# Altium schematic symbol library NOUMANPCBLIB.SchLib: 638 symbols (part 2 of 6)
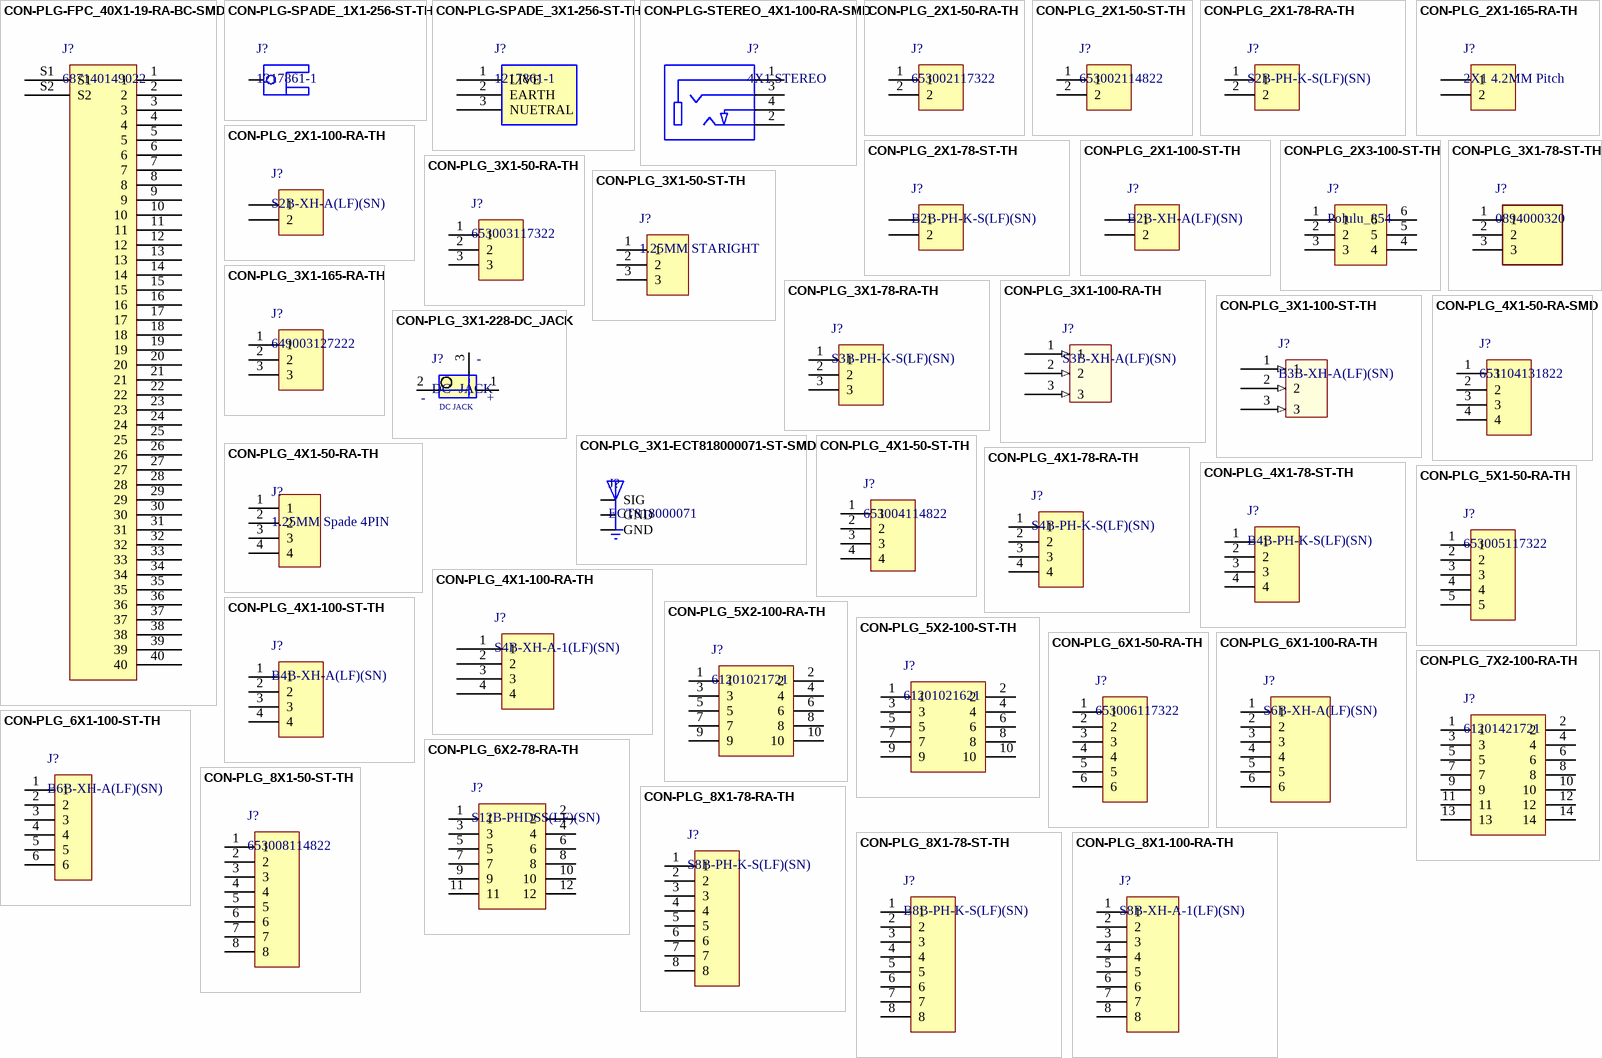
[diagram p19: symbols CON-PLG-FPC_40X1-19-RA-BC-SMD to CON-PLG_8X1-100-RA-TH]

## CON-PLG_6X1-100-ST-TH
designator J?, comment B6B-XH-A(LF)(SN)
6 Pins, 1 Row 2.54mm Pitch, straight Connector, male; Manufacturer: JST; Mating Part Number: XHP-6; Crimp Part Number: ASXHSXH22K51; Alternate Part Number-1: NA; Manufacturer Part Number: B6B-XH-A(LF)(SN); Case/Package: TH-CON; Supplier-1: ARROW; Supplier Part Number-1: B6B-XH-A(LF)(SN)
footprint CON6_100_B6B-XH-A_TH_ST (Connector Header)
pins: 1, 2, 3, 4, 5, 6

## CON-PLG_6X2-78-RA-TH
designator J?, comment S12B-PHDSS(LF)(SN)
12 Pins, 2 Row 2mm Pitch, right angle Connector, male; Manufacturer: JST; Mating Part Number: PHDR-12VS; Crimp Part Number: SPHD-001T-P0.5; Alternate Part Number-1: NA; Manufacturer Part Number: S12B-PHDSS(LF)(SN); Case/Package: TH-CON; Supplier-1: ARROW; Supplier Part Number-1: S12B-PHDSS(LF)(SN)
footprint CON12_78_S12B-PHDSS_TH_RA (CONNECTOR)
pins: 1, 2, 3, 4, 5, 6, 7, 8, 9, 10, 11, 12

## CON-PLG_7X2-100-RA-TH
designator J?, comment 61201421721
14 Pins, 2 Row 1.25mm Pitch, right angle Connector, male; Manufacturer: WE; Mating Part Number: 61201423021; Crimp Part Number: 63911415521CAB; Alternate Part Number-1: NA; Manufacturer Part Number: 61201421721; Case/Package: TH-CON; Supplier-1: WURTH; Supplier Part Number-1: 61201421721
footprint CON14_100_61201421721_TH_RA (Connector Header Through Hole, Right Angle 14 position 0.100" (2.54mm))
pins: 1, 2, 3, 4, 5, 6, 7, 8, 9, 10, 11, 12, 13, 14

## CON-PLG_8X1-50-ST-TH
designator J?, comment 653008114822
8 Pins, 1 Row 1.25mm Pitch, straight Connector, male; Manufacturer: Wurth Electronics; Mating Part Number: 653008113322; Crimp Part Number: 653153128130; Alternate Part Number-1: NA; Manufacturer Part Number: 653008114822; Case/Package: TH-CON; Supplier-1: WURTH; Supplier Part Number-1: 653008114822
footprint CON8_50_653008114822_TH_ST (wurth connector)
pins: 1, 2, 3, 4, 5, 6, 7, 8

## CON-PLG_8X1-78-RA-TH
designator J?, comment S8B-PH-K-S(LF)(SN)
8 Pins, 1 Row 2mm Pitch, right angle Connector, male; Manufacturer: JST; Mating Part Number: PHR-8; Crimp Part Number: ASPHSPH24K51; Alternate Part Number-1: NA; Manufacturer Part Number: S8B-PH-K-S(LF)(SN); Case/Package: TH-CON; Supplier-1: ARROW; Supplier Part Number-1: S8B-PH-K-S(LF)(SN)
footprint CON8_78_S8B-PH-K-S_TH_RA (Connector Header)
pins: 1, 2, 3, 4, 5, 6, 7, 8

## CON-PLG_8X1-78-ST-TH
designator J?, comment B8B-PH-K-S(LF)(SN)
8 Pins, 1 Row 2mm Pitch, straight Connector, male; Manufacturer: JST; Mating Part Number: PHR-8; Alternate Part Number-1: NA; Manufacturer Part Number: B8B-PH-K-S(LF)(SN); Case/Package: TH-CON; Supplier-1: LCSC; Supplier Part Number-1: C157975; Crimp Part Number: *
footprint CON8_78_B8B-PH-K-S_TH_ST (Connector Header)
pins: 1, 2, 3, 4, 5, 6, 7, 8

## CON-PLG_8X1-100-RA-TH
designator J?, comment S8B-XH-A-1(LF)(SN)
8 Pins, 1 Row 2.54mm Pitch, right angle Connector, male; Manufacturer: WE; Mating Part Number: XHP-8; Crimp Part Number: ASXHSXH22K51; Alternate Part Number-1: NA; Manufacturer Part Number: S8B-XH-A-1(LF)(SN); Case/Package: TH-CON; Supplier-1: LCSC; Supplier Part Number-1: C157914
footprint CON8_100_S8B-XH-A_TH_RA (Connector Header)
pins: 1, 2, 3, 4, 5, 6, 7, 8

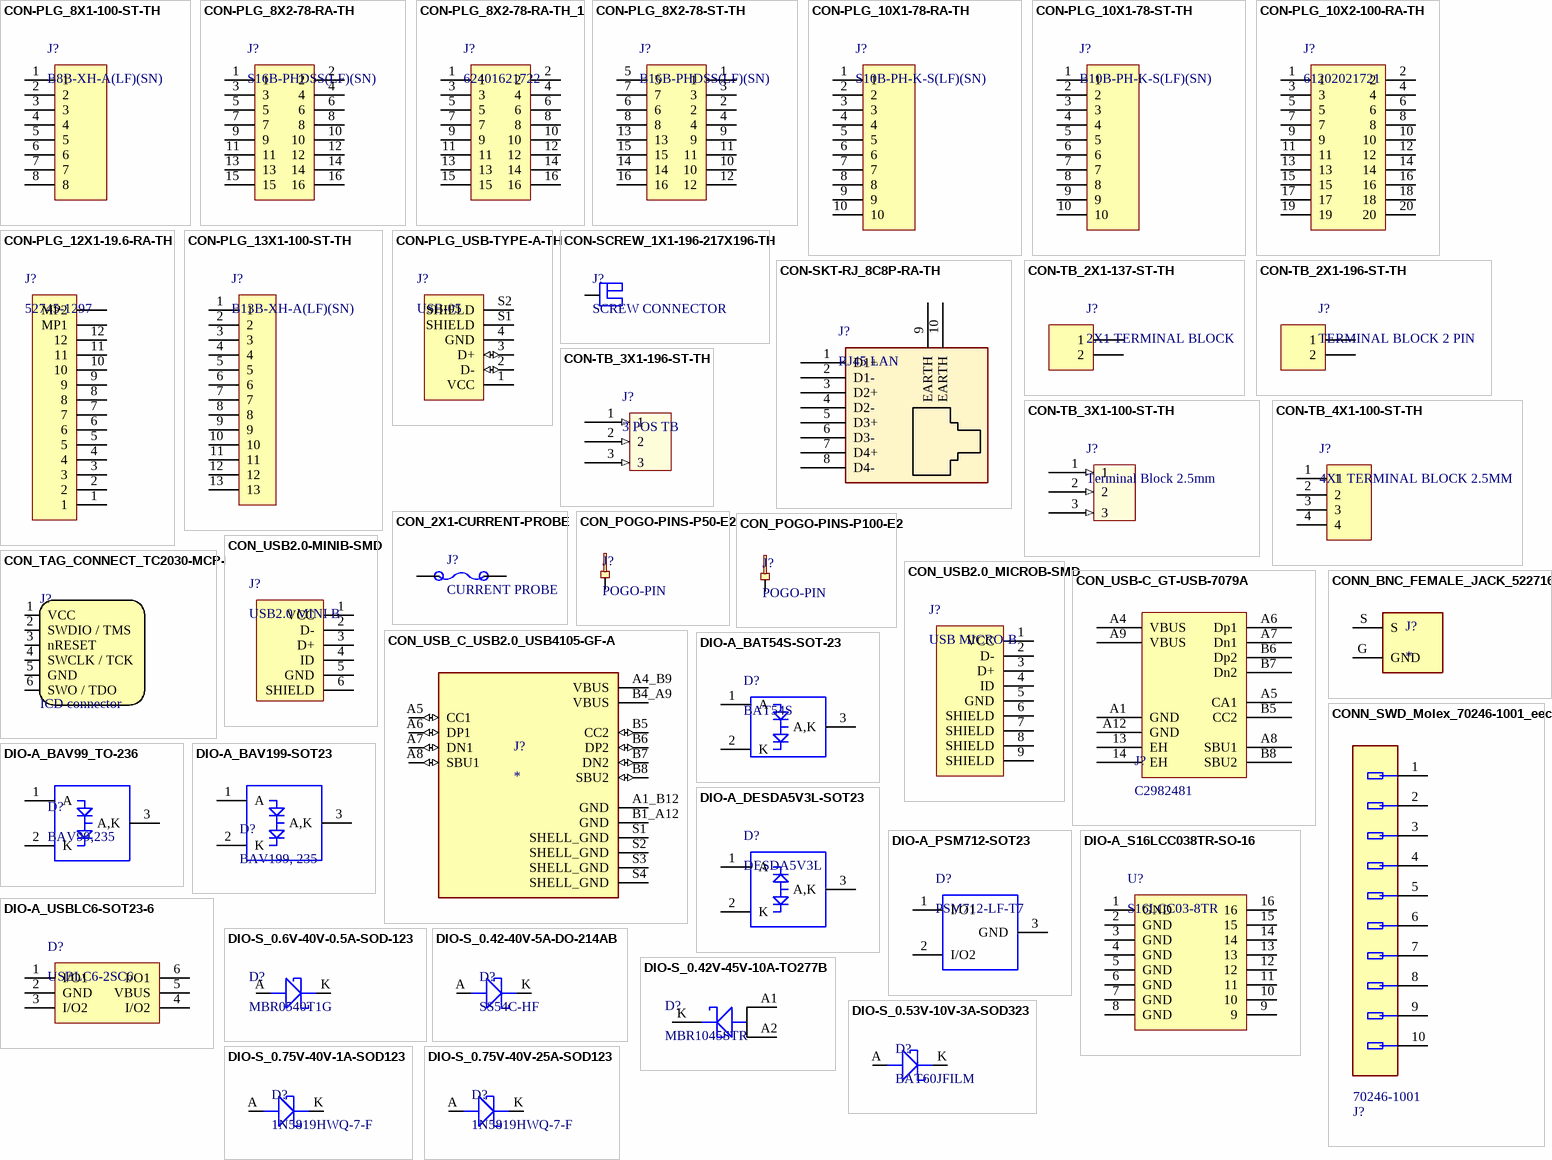
[diagram p4: symbols CON-PLG_8X1-100-ST-TH to DIO-S_0.75V-40V-25A-SOD123]

## CON-PLG_8X1-100-ST-TH
designator J?, comment B8B-XH-A(LF)(SN)
8 Pins, 1 Row 2.54mm Pitch, straight Connector, male; Manufacturer: JST; Mating Part Number: XHP-8; Crimp Part Number: ASXHSXH22K51; Alternate Part Number-1: NA; Manufacturer Part Number: B8B-XH-A(LF)(SN); Case/Package: TH-CON; Supplier-1: LCSC; Supplier Part Number-1: C157972
footprint CON8_100_B8B-XH-A_TH_ST (Connector Header)
pins: 1, 2, 3, 4, 5, 6, 7, 8

## CON-PLG_8X2-78-RA-TH
designator J?, comment S16B-PHDSS(LF)(SN)
16 Pins, 2 Row 2mm Pitch, right angle Connector, male; Manufacturer: JST; Mating Part Number: PHDR-16VS; Crimp Part Number: SPHD-001T-P0.5; Alternate Part Number-1: NA; Manufacturer Part Number: S16B-PHDSS(LF)(SN); Case/Package: TH-CON; Supplier-1: LCSC; Supplier Part Number-1: C161675
footprint CON16_78_S16B-PHDSS_TH-RA (CONNECTOR)
pins: 1, 2, 3, 4, 5, 6, 7, 8, 9, 10, 11, 12, 13, 14, 15, 16

## CON-PLG_8X2-78-RA-TH_1
designator J?, comment 62401621722
Connector Header Through Hole, Right Angle 16 position 0.079" (2.00mm); Manufacturer: Würth Elektronik; Mating Part Number: 624016213322; Crimp Part Number: 62410113722; Alternate Part Number-1: NA; Manufacturer Part Number: 62401621722; Case/Package: TH; Supplier-1: Wurth; Supplier Part Number-1: 62401621722
footprint CON16_78_62401621722_TH_RA (Wurth Connector)
pins: 1, 2, 3, 4, 5, 6, 7, 8, 9, 10, 11, 12, 13, 14, 15, 16

## CON-PLG_8X2-78-ST-TH
designator J?, comment B16B-PHDSS(LF)(SN)
16 Pins, 2 Row 2mm Pitch, straight Connector, male; Manufacturer: JST; Mating Part Number: PHDR-16VS; Crimp Part Number: SPHD-001T-P0.5; Alternate Part Number-1: NA; Manufacturer Part Number: B16B-PHDSS(LF)(SN); Case/Package: TH-CON; Supplier-1: LCSC; Supplier Part Number-1: C160325
footprint CON16_78_59D59_TH_ST (Connector)
pins: 1, 2, 3, 4, 5, 6, 7, 8, 9, 10, 11, 12, 13, 14, 15, 16

## CON-PLG_10X1-78-RA-TH
designator J?, comment S10B-PH-K-S(LF)(SN)
10 Pins, 1 Row 2mm Pitch, right angle Connector, male; Manufacturer: JST; Mating Part Number: PHR-10; Crimp Part Number: ASPHSPH24K51; Alternate Part Number-1: NA; Manufacturer Part Number: S10B-PH-K-S(LF)(SN); Case/Package: TH-CON; Supplier-1: ARROW; Supplier Part Number-1: S10B-PH-K-S(LF)(SN)
footprint CON10_78_S10B-PH-K-S_TH_RA (Connector Header Through Hole, Right Angle 10 position 0.079" (2.00mm))
pins: 1, 2, 3, 4, 5, 6, 7, 8, 9, 10

## CON-PLG_10X1-78-ST-TH
designator J?, comment B10B-PH-K-S(LF)(SN)
10 Pins, 1 Row 2mm Pitch, straight Connector, male; Manufacturer: jst; Mating Part Number: PHR-10; Crimp Part Number: ASPHSPH24K51; Alternate Part Number-1: NA; Manufacturer Part Number: B10B-PH-K-S(LF)(SN); Case/Package: TH-CON; Supplier-1: Arrow; Supplier Part Number-1: B10B-PH-K-S(LF)(SN)
footprint CON10_78_B10B-PH-K-S(LF)(SN)_TH_ST (JST CONNECTOR)
pins: 1, 2, 3, 4, 5, 6, 7, 8, 9, 10

## CON-PLG_10X2-100-RA-TH
designator J?, comment 61202021721
Connector Header Through Hole, Right Angle 20 position 0.100" (2.54mm); Manufacturer: WE; Mating Part Number: 61202023021; Crimp Part Number: 3365/20 300; Alternate Part Number-1: NA; Manufacturer Part Number: 61202021721; Case/Package: TH; Supplier-1: Mouser; Supplier Part Number-1: 710-61202021721
footprint CON20_100_61202021721_TH_RA (Connector Header Through Hole, Right Angle 20 position 0.100" (2.54mm))
pins: 1, 2, 3, 4, 5, 6, 7, 8, 9, 10, 11, 12, 13, 14, 15, 16, 17, 18, 19, 20

## CON-PLG_12X1-19.6-RA-TH
designator J?, comment 52745-1297
12 Pins, 1 Row 19.6mil Pitch, right angle Connector, male; Manufacturer: Molex; Mating Part Number: 687612050002; Alternate Part Number-1: NA; Manufacturer Part Number: 52745-1297; Case/Package: TH-CON; Supplier-1: MOUSER; Supplier Part Number-1: 538-52745-1297
footprint CON12_19.7_0527451297_RA_SMD (CONNECTOR)
pins: 1, 2, 3, 4, 5, 6, 7, 8, 9, 10, 11, 12, MP1, MP2

## CON-PLG_13X1-100-ST-TH
designator J?, comment B13B-XH-A(LF)(SN)
Connector Header Through Hole 13 position 0.098" (2.50mm); Manufacturer: JST Sales America Inc.; Mating Part Number: XHP-13; Crimp Part Number: ASXHSXH22K51; Alternate Part Number-1: NA; Manufacturer Part Number: B13B-XH-A(LF)(SN); Case/Package: TH; Supplier-1: Arrow; Supplier Part Number-1: B13B-XH-A(LF)(SN)
footprint CON13_100_B13B-XH-A(LF)(SN) (JST CON)
pins: 1, 2, 3, 4, 5, 6, 7, 8, 9, 10, 11, 12, 13

## CON-PLG_USB-TYPE-A-TH
designator J?, comment USB-05
USB Connectors USB CONN PLUG RA SMT POST 1.1 REEL; Manufacturer: TE Connectivity; Alternate Part Number-1: NA; Manufacturer Part Number: USB-05; Case/Package: TH; Supplier-1: LCSC; Supplier Part Number-1: C112454
footprint USB2.0_TYPE-A_TH (USB 2.0 TYPE A)
pins: 1 VCC (power), 2 D- (io), 3 D+ (io), 4 GND (power), S1 SHIELD (power), S2 SHIELD (power)

## CON-SCREW_1X1-196-217X196-TH
designator J?, comment SCREW CONNECTOR
1 Pins, 1 Row 4.2mm Pitch, straight Connector, male; Manufacturer Part Number: NA; Manufacturer: STMicroelectronics; Case/Package: TH-CON; Supplier-1: SP ROAD; Supplier Part Number-1: NA; Alternate Part Number-1: NA
footprint CON1_P165_98D47_TH_ST (Screw Terminal)
pins: 1

## CON-SKT-RJ_8C8P-RA-TH
designator J?, comment RJ45 LAN
8 Pins, 2 Row 2.54mm Pitch, right angle Connector, male; Manufacturer: Assmann; Manufacturer Part Number: A-2004-2-4-LPS-N-R; Alternate Part Number-1: NA; Case/Package: TH-CON; Supplier-1: SP ROAD; Supplier Part Number-1: A-2004-2-4-LPS-N-R
footprint CON10_P106_RJ45_TH_ST (LAN Connector)
pins: 1 D1+, 2 D1-, 3 D2+, 4 D2-, 5 D3+, 6 D3-, 7 D4+, 8 D4-, 9 EARTH, 10 EARTH

## CON-TB_2X1-137-ST-TH
designator J?, comment 2X1 TERMINAL BLOCK
2 Pins, 1 Row 137mil Pitch, straight Connector, male; Manufacturer: Wurth Electronics; Manufacturer Part Number: 691103110002; Alternate Part Number-1: NA; Case/Package: TH-CON; Supplier-1: SP ROAD; Supplier Part Number-1: 691103110002
footprint CON2_P137_691103110002_TH_ST (Connector terminal)
pins: 1, 2

## CON-TB_2X1-196-ST-TH
designator J?, comment TERMINAL BLOCK 2 PIN
2 Pins, 1 Row 5mm Pitch, straight Connector, male; Manufacturer: Phoenix Contact; Manufacturer Part Number: MKDSN1,5/2; Alternate Part Number-1: NA; Case/Package: TH-CON; Supplier-1: SP ROAD; Supplier Part Number-1: MKDSN1,5/2
footprint CON2_P196_1729128_TH_ST (Terminal Block)
pins: 1, 2

## CON-TB_3X1-100-ST-TH
designator J?, comment Terminal Block 2.5mm
3 Pins, 1 Row 2.54mm Pitch, straight Connector, male; Manufacturer Part Number: 1725669; Manufacturer: Phoenix Contact; Alternate Part Number-1: NA; Case/Package: TH-CON; Supplier-1: SP ROAD; Supplier Part Number-1: 1725669
footprint CON3_100_TB_TH_ST
pins: 1 (in), 2 (in), 3 (in)

## CON-TB_3X1-196-ST-TH
designator J?, comment 3 POS TB
3 Pins, 1 Row 5mm Pitch, straight Connector, male; Manufacturer: Wurth Electronics; Manufacturer Part Number: 691101710003; Alternate Part Number-1: NA; Case/Package: TH-CON; Supplier-1: SP ROAD; Supplier Part Number-1: 691101710003
footprint CON3_P196_691101710003_TH_ST (Terminal Block)
pins: 1 (in), 2 (in), 3 (in)

## CON-TB_4X1-100-ST-TH
designator J?, comment 4X1 TERMINAL BLOCK 2.5MM
4 Pins, 1 Row 2.54mm Pitch, straight Connector, male; Manufacturer: Phoenix Contact; Manufacturer Part Number: 1989764; Alternate Part Number-1: NA; Case/Package: TH-CON; Supplier-1: ARROW; Supplier Part Number-1: 1989764
footprint CON4_100_TB_TH_ST
pins: 1, 2, 3, 4

## CON_2X1-CURRENT-PROBE
designator J?, comment CURRENT PROBE
2 Pins, probing holes for wires; Manufacturer Part Number: NA; Case/Package: CURRENT PROBE-TH; Manufacturer: NA; Supplier-1: N/A; Supplier Part Number-1: N/A; Alternate Part Number-1: NA
footprint CON2_P905_62D100_TH (NA)
pins: 1, 2

## CON_POGO-PINS-P50-E2
designator J?, comment POGO-PIN
Spring test probes are necessary parts for PCB testing to access components on printed circuit assemblies.; Manufacturer: NA; Manufacturer Part Number: P50-E2; Case/Package: TH; Supplier-1: Robokits; Supplier Part Number-1: P50-E2; Alternate Part Number-1: NA
footprint P100-E2_TH_ST (POGO-PINS)
pins: 1

## CON_POGO-PINS-P100-E2
designator J?, comment POGO-PIN
Spring test probes are necessary parts for PCB testing to access components on printed circuit assemblies.; Manufacturer: NA; Manufacturer Part Number: P100-E2; Case/Package: TH; Supplier-1: Robokits; Supplier Part Number-1: P100-E2; Alternate Part Number-1: NA
footprint P100-E2_TH_ST (POGO-PINS)
pins: 1

## CON_TAG_CONNECT_TC2030-MCP-NL
designator J?, comment ICD connector  (no BOM)
Conector par ICD
footprint TC2030-MCP (Conector ICD en placa)
pins: 1 VCC, 2 SWDIO / TMS, 3 nRESET, 4 SWCLK / TCK, 5 GND, 6 SWO / TDO

## CON_USB2.0-MINIB-SMD
designator J?, comment USB2.0 MINI B
USB - mini B USB 2.0 Receptacle Connector 5 Position Surface Mount, Right Angle; Manufacturer: EDAC; Manufacturer Part Number: 690-005-299-043; Alternate Part Number-1: NA; Case/Package: USB-MINI-B; Supplier-1: LCSC; Supplier Part Number-1: C105424
footprint CON_690-005-299-043 (USB MINI-B)
pins: 1 VCC, 2 D-, 3 D+, 4 ID, 5 GND, 6 SHIELD

## CON_USB2.0_MICROB-SMD
designator J?, comment USB MICRO-B
USB - micro B USB 2.0 Receptacle Connector 5 Position Surface Mount, Right Angle; Manufacturer: ICC; Manufacturer Part Number: 10118192-0001LF; Alternate Part Number-1: NA; Case/Package: USB MICRO-B SMD; Supplier-1: SUNROM; Supplier Part Number-1: MICRO USB
footprint CON_10118192-0001LF_SMD (USB2.0 MICRO)
pins: 1 VCC, 2 D-, 3 D+, 4 ID, 5 GND, 6 SHIELD, 7 SHIELD, 8 SHIELD, 9 SHIELD

## CON_USB-C_GT-USB-7079A
designator J?, comment C2982481
5A 1 Surface Mount 16 Female -55℃~+85℃ Type-C SMD USB Connectors ROHS C2982481
footprint GT-USB-7079A
pins: 13 EH, 14 EH, A1 GND, A4 VBUS, A5 CA1, A6 Dp1, A7 Dn1, A8 SBU1, A9 VBUS, A12 GND, B5 CC2, B6 Dp2, B7 Dn2, B8 SBU2

## CON_USB_C_USB2.0_USB4105-GF-A
designator J?
footprint CON_USB_C_USB2.0_USB4105-GF-A
pins: A1_B12 GND (power), A4_B9 VBUS (power), A5 CC1 (io), A6 DP1 (io), A7 DN1 (io), A8 SBU1 (io), B1_A12 GND (power), B4_A9 VBUS (power), B5 CC2 (io), B6 DP2 (io), B7 DN2 (io), B8 SBU2 (io), S1 SHELL_GND (power), S2 SHELL_GND (power), S3 SHELL_GND (power), S4 SHELL_GND (power)

## CONN_BNC_FEMALE_JACK_5227161-2
designator J?
Valox Black 50 Ohm Right Angle Jack PCB Mount BNC Connector; MF: TE Connectivity; MP: 5227161-2; Package: None; Check_prices: https://www.snapeda.com/parts/5227161-2/TE+Connectivity/view-part/?ref=eda; Value: *; Price: None; Purchase-URL: https://pricing.snapeda.com/search/part/5227161-2/?ref=eda; EU_RoHS_Compliance: Compliant with Exemptions; Availability: In Stock; SnapEDA_Link: https://www.snapeda.com/parts/5227161-2/TE+Connectivity/view-part/?ref=snap
footprint TE_5227161-2
pins: G GND (power), S

## CONN_SWD_Molex_70246-1001_eec
designator J?  Part Number: 70246-1001
CONN 10 Positions Header Connector 0.100" (2.54mm) Through Hole Gold; Manufacturer: Molex; Voltage: 250V; Current - Maximum per Contact: 2.5A; Number of Circuits: 10; helpURL: https://upverter.com/upn/revision/723849a355ae3f31/; ComponentLink2Description: Datasheet; Temperature: -55°C to +120°C; Package: HDR10; Supplier 2: Mouser; Supplier 1: Digi-Key; ComponentLink1URL: https://upverter.com/upn/revision/723849a355ae3f31/; Supplier Part Number 2: 538-70246-1001; Supplier Part Number 1: WM9219-ND; ComponentLink1Description: Upverter; ComponentLink2URL: http://www.molex.com/pdm_docs/sd/702461001_sd.pdf; RoHS: TRUE; Mouser Part Number: 538-70246-1001; Temperature Range High: +120°C; Digikey Description: CONN 10 Positions Header Connector 0.100" (2.54mm) Through Hole Gold; Digikey Part Number: WM9219-ND; Lead Free: yes; Temperature Range Low: -55°C; Pitch: 2.54mm
footprint Molex_70246-1001_0
pins: 1, 2, 3, 4, 5, 6, 7, 8, 9, 10

## DIO-A_BAT54S-SOT-23
designator D?, comment BAT54S
Diode Array 1 Pair Series Connection Schottky 30V 200mA Surface Mount SOT-23-3; Manufacturer: ON Semiconductor; Alternate Part Number-1: NA; Manufacturer Part Number: BAT54S; Case/Package: SOT-23-3; Supplier-1: Arrow; Supplier Part Number-1: BAT54S RFG
footprint SOT 23-3 (Case: SOT23)
pins: 1 A, 2 K, 3 A,K

## DIO-A_BAV99_TO-236
designator D?, comment BAV99,235
Diode Array 1 Pair Series Connection Standard 100V 215mA (DC) Surface Mount TO-236-3, SC-59, SOT-23-3; Manufacturer: Diodes; Alternate Part Number-1: NA; Manufacturer Part Number: BAV99,235; Case/Package: TO-236-3; Supplier-1: SIRICOM; Supplier Part Number-1: BAV99
footprint DIO_TO-236_SMD (Diode Array)
pins: 1 A, 2 K, 3 A,K

## DIO-A_BAV199-SOT23
designator D?, comment BAV199, 235
Diode Array 1 Pair Series Connection Standard 85V 140mA (DC) Surface Mount TO-236-3, SC-59, SOT-23-3; Manufacturer: Nexperia; Alternate Part Number-1: NA; Manufacturer Part Number: BAV199, 235; Case/Package: SOT23-3; Supplier-1: SIRICOM; Supplier Part Number-1: BAV199, 235
footprint SOT 23-3 (Case: SOT23)
pins: 1 A, 2 K, 3 A,K

## DIO-A_DESDA5V3L-SOT23
designator D?, comment DESDA5V3L
15V Clamp 20A (8/20µs) Ipp Tvs Diode Surface Mount SOT-23; Manufacturer: Diodes; Manufacturer Part Number: DESDA5V3L-7; Alternate Part Number-1: NA; Case/Package: SOT-23; Supplier-1: LCSC; Supplier Part Number-1: C343994
footprint SOT 23-3 (Case: SOT23)
pins: 1 A, 2 K, 3 A,K

## DIO-A_PSM712-SOT23
designator D?, comment PSM712-LF-T7
ESD Suppressor TVS Bi-Dir 12V/7V 3-Pin SOT-23 T/R; Manufacturer: Protek Devices; Alternate Part Number-1: NA; Manufacturer Part Number: PSM712-LF-T7; Case/Package: SOT-23; Supplier-1: LCSC; Supplier Part Number-1: PSM712-LF-T7
footprint SOT 23-3 (Case: SOT23)
pins: 1 I/O1, 2 I/O2, 3 GND

## DIO-A_S16LCC038TR-SO-16
designator U?, comment S16LCC03-8TR
7V Clamp 1A Ipp Tvs Diode Surface Mount 16-SO; Manufacturer: SMC Diode Solutions; Alternate Part Number-1: NA; Manufacturer Part Number: S16LCC03-8TR; Case/Package: SOIC-16; Supplier-1: Digikey; Supplier Part Number-1: 1655-2162-1-ND
footprint SOIC16_50_284_25X90_SMT
pins: 1 GND, 2 GND, 3 GND, 4 GND, 5 GND, 6 GND, 7 GND, 8 GND, 9, 10, 11, 12, 13, 14, 15, 16

## DIO-A_USBLC6-SOT23-6
designator D?, comment USBLC6-2SC6
17V Clamp 5A (8/20µs) Ipp Tvs Diode Surface Mount SOT-23-6; Manufacturer: STMicroelectronics; Alternate Part Number-1: NA; Manufacturer Part Number: USBLC6-2SC6; Case/Package: SOT-23-6; Supplier-1: LCSC; Supplier Part Number-1: USBLC6-2P6
footprint SOT23-6 (CASE: SOT)
pins: 1 I/O1, 2 GND, 3 I/O2, 4 I/O2, 5 VBUS, 6 I/O1

## DIO-S_0.6V-40V-0.5A-SOD-123
designator D?, comment MBR0540T1G
Schottky Diodes & Rectifiers 0.5A 40V; Manufacturer: ON Semiconductor; Alternate Part Number-1: NA; Manufacturer Part Number: MBR0540T1G; Case/Package: SOD-123; Supplier-1: Mouser; Supplier Part Number-1: 863-MBR0540T1G
footprint DIO_SOD-123 (DIODE GEN PURP)
pins: A 1, K 2

## DIO-S_0.42-40V-5A-DO-214AB
designator D?, comment SS54C-HF
Schottky Diodes & Rectifiers 5A,40V,SM SCHOTTKY RECT; Manufacturer: Vishay Semiconductors; Alternate Part Number-1: NA; ComponentLink1Description: New link; ComponentLink1URL: *; Manufacturer Part Number: SS54C-HF; Case/Package: DO-214AB; Supplier-1: Mouser; Supplier Part Number-1: SS54C-HF
footprint DIO_SMC_DO-214AB (Diode)
pins: A 1, K 2

## DIO-S_0.42V-45V-10A-TO277B
designator D?, comment MBR1045STR
Diode Schottky 45V 10A Surface Mount TO-277B; Manufacturer: SMC; Alternate Part Number-1: NA; Manufacturer Part Number: MBR1045STR; Case/Package: TO277B; Supplier-1: RS Components; Supplier Part Number-1: MBR1045STR
footprint DIO_TO277B (SHOTTKEY DIODE)
pins: A1 1, A2 1, K 2

## DIO-S_0.53V-10V-3A-SOD323
designator D?, comment BAT60JFILM
Diode Schottky 10V 3A (DC) Surface Mount SOD-323; Manufacturer: STMicroelectronics; Alternate Part Number-1: NA; Manufacturer Part Number: BAT60JFILM; Case/Package: SOD323; Supplier-1: ARROW; Supplier Part Number-1: BAT60JFILM
footprint DIO_SOD-323F (Diode)
pins: A 1, K 2

## DIO-S_0.75V-40V-1A-SOD123
designator D?, comment 1N5819HWQ-7-F
Schottky Diodes & Rectifiers Schottky Rectifier; Manufacturer: Diodes Incorporated; Alternate Part Number-1: NA; Manufacturer Part Number: 1N5819HWQ-7-F; Case/Package: SOD-123; Supplier-1: Digikey; Supplier Part Number-1: 1N5819HW-FDICT-ND
footprint DIO_SOD-123 (DIODE GEN PURP)
pins: A 1, K 2

## DIO-S_0.75V-40V-25A-SOD123
designator D?, comment 1N5819HWQ-7-F
Schottky Diodes & Rectifiers Schottky Rectifier; Manufacturer: Diodes Incorporated; Alternate Part Number-1: NA; Manufacturer Part Number: 1N5819HWQ-7-F; Case/Package: SOD-123; Supplier-1: Mouser; Supplier Part Number-1: 621-1N5819HWQ-7-F
footprint DIO_SOD-123 (DIODE GEN PURP)
pins: A 1, K 2

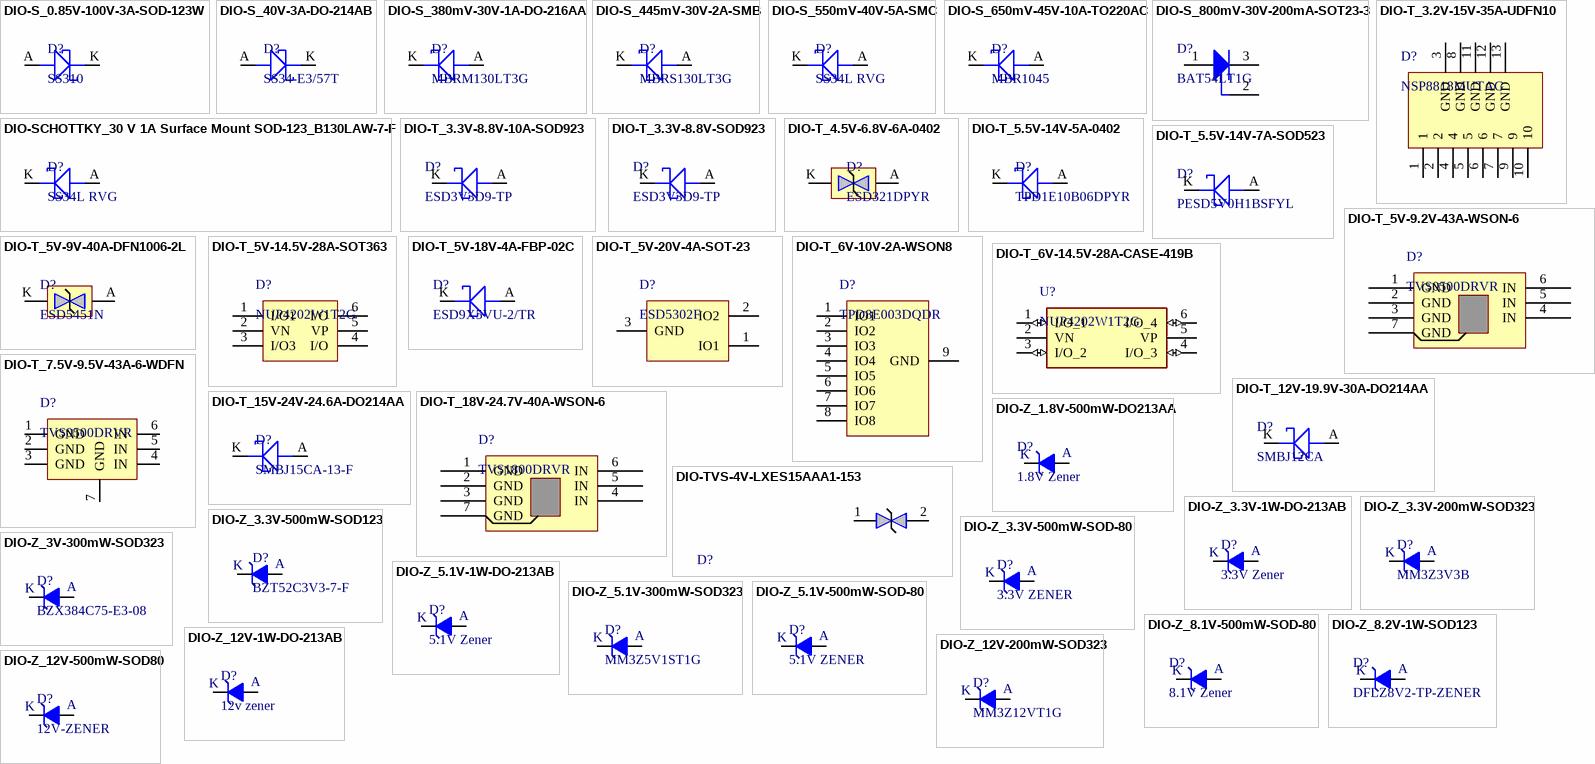
[diagram p5: symbols DIO-S_0.85V-100V-3A-SOD-123W to DIO-Z_12V-500mW-SOD80]

## DIO-S_0.85V-100V-3A-SOD-123W
designator D?, comment SS310
Diode Schottky 100V 3A 2-Pin SOD-123W T/R; Manufacturer: Taiwan Semiconductor; Manufacturer Part Number: SS310LW RVG; Alternate Part Number-1: NA; Case/Package: SOD-123W; Supplier-1: ARROW; Supplier Part Number-1: SS310W RVG
footprint DIO_SOD-123W (DIODE)
pins: A 1, K 2

## DIO-S_40V-3A-DO-214AB
designator D?, comment SS34-E3/57T
Schottky Diodes & Rectifiers 3.0 Amp 40 Volt; Manufacturer: Vishay Semiconductors; Alternate Part Number-1: NA; Manufacturer Part Number: SS34-E3/57T; Case/Package: DO-214AB; Supplier-1: Mouser; Supplier Part Number-1: 625-SS34-E3
footprint DIO_SMC_DO-214AB (Diode)
pins: A 1, K 2

## DIO-S_380mV-30V-1A-DO-216AA
designator D?, comment MBRM130LT3G
Diode Schottky 30V 1A Surface Mount Powermite; Manufacturer: ON Semiconductor; Alternate Part Number-1: NA; Manufacturer Part Number: MBRM130LT3G; Case/Package: DO-216AA; Supplier-1: ARROW; Supplier Part Number-1: MBRM130LT3G
footprint DIO_CASE 457-04_SMD (POWERMITE, 2-Leads, Body 1.965x1.9mm)
pins: A, K

## DIO-S_445mV-30V-2A-SMB
designator D?, comment MBRS130LT3G
Diode Schottky 30V 2A Surface Mount SMB; Manufacturer: ON Semiconductor; Alternate Part Number-1: NA; Manufacturer Part Number: MBRS130LT3G; Case/Package: SMB; Supplier-1: ARROW; Supplier Part Number-1: MBRS130LT3G
footprint DIO_SMB_DO-214AA (Diode)
pins: A, K

## DIO-S_550mV-40V-5A-SMC
designator D?, comment SS34L RVG
Diode Schottky 40V 5A Surface Mount SMA; Manufacturer: Multicomp; Alternate Part Number-1: SS34; Manufacturer Part Number: SS34L RVG; Case/Package: SMC; Supplier-1: SIRICOM; Supplier Part Number-1: SS34L RVG
footprint DIO_SMB_DO-214AC (Diodes)
pins: A, K

## DIO-S_650mV-45V-10A-TO220AC
designator D?, comment MBR1045
Diode Schottky 45V 10A Through Hole TO-220AC; Manufacturer: SMC; Manufacturer Part Number: MBR1045G; Alternate Part Number-1: NA; Case/Package: TO-220-2; Supplier-1: ARROW; Supplier Part Number-1: MBR1045G
footprint DIO_TO_220_2 (Diode)
pins: A, K

## DIO-S_800mV-30V-200mA-SOT23-3
designator D?, comment BAT54LT1G
Diode Schottky 30V 200mA (DC) Surface Mount SOT-23-3 (TO-236); Manufacturer: ON Semiconductor; Alternate Part Number-1: NA; Manufacturer Part Number: BAT54LT1G; Case/Package: SOT-23-3; Supplier-1: SIRICOM; Supplier Part Number-1: BAT54L
footprint SOT 23-3 (Case: SOT23)
pins: 1 A, 2 NC, 3 K

## DIO-SCHOTTKY_30 V 1A Surface Mount SOD-123_B130LAW-7-F
designator D?, comment SS34L RVG
B130LAW-7-F Diode Schottky 30 V 1A Surface Mount SOD-123; Manufacturer: Multicomp; Alternate Part Number-1: SS34; Manufacturer Part Number: SS34L RVG; Case/Package: SMC; Supplier-1: SIRICOM; Supplier Part Number-1: SS34L RVG
footprint SOD3715X135N
pins: A, K

## DIO-T_3.2V-15V-35A-UDFN10
designator D?, comment NSP8818MUTAG
15V Clamp 35A (8/20µs) Ipp Tvs Diode Surface Mount 10-UDFN (3.5x2); Manufacturer: ON Semiconductor; Alternate Part Number-1: NA; Manufacturer Part Number: NSP8818MUTAG; Case/Package: UDFN10; Supplier-1: Mouser; Supplier Part Number-1: 863-NSP8818MUTAG
footprint DIO_UDFN10 (DIODE ARRAY)
pins: 1, 2, 3 GND, 4, 5, 6, 7, 8 GND, 9, 10, 11 GND, 12 GND, 13 GND

## DIO-T_3.3V-8.8V-10A-SOD923
designator D?, comment ESD3V3D9-TP
TVS DIODE 3.3V 8.8V SOD923; Manufacturer: Micro Commercial Co; Alternate Part Number-1: NA; Manufacturer Part Number: ESD3V3D9-TP; Case/Package: SOD923; Supplier-1: Digikey; Supplier Part Number-1: ESD3V3D9-TPMSTR-ND
footprint DIO_SOD-923
pins: A, K

## DIO-T_3.3V-8.8V-SOD923
designator D?, comment ESD3V3D9-TP
8.8V Clamp 5A (8/20µs) Ipp Tvs Diode Surface Mount SOD-923; Manufacturer: Micro Commercial Co; Alternate Part Number-1: NA; Manufacturer Part Number: ESD3V3D9-TP; Case/Package: SOD923; Supplier-1: Digikey; Supplier Part Number-1: ESD3V3D9-TPMSCT-ND - Cut Tape (CT)
footprint DIO_SOD-923
pins: A, K

## DIO-T_4.5V-6.8V-6A-0402
designator D?, comment ESD321DPYR
6.8V (Typ) Clamp 6A (8/20µs) Ipp Tvs Diode Surface Mount 2-X1SON (1x.60); Manufacturer: Littelfuse; Alternate Part Number-1: NA; Manufacturer Part Number: ESD321DPYR; Case/Package: 0402; Supplier-1: LCSC; Supplier Part Number-1: ESD321DPYR
footprint DIO_0402_SMD (Diode)
pins: A, K

## DIO-T_5.5V-14V-5A-0402
designator D?, comment TPD1E10B06DPYR
14V Clamp 5A (8/20µs) Ipp Tvs Diode Surface Mount 2-X1SON (1x.60); Manufacturer: Texas Instruments; Alternate Part Number-1: NA; Manufacturer Part Number: TPD1E10B06DPYR; Case/Package: 0402; Supplier-1: ARROW; Supplier Part Number-1: TPD1E10B06DPYR
footprint DIO_0402_SMD (Diode)
pins: A, K

## DIO-T_5.5V-14V-7A-SOD523
designator D?, comment PESD5V0H1BSFYL
14V Clamp 12A (8/20µs) Ipp Tvs Diode Surface Mount SOD-523; Manufacturer: Texas Instruments; Manufacturer Part Number: PESD5V0S1BB,335; Alternate Part Number-1: NA; Case/Package: SOD523; Supplier-1: ARROW; Supplier Part Number-1: PESD5V0S1BB,335
footprint DIO_SOD523
pins: A, K

## DIO-T_5V-9.2V-43A-WSON-6
designator D?, comment TVS0500DRVR
9.5V Clamp 43A (8/20µs) Ipp Tvs Diode Surface Mount 6-WSON (2x2); Manufacturer: Littelfuse; Alternate Part Number-1: NA; Manufacturer Part Number: TVS0500DRVR; Case/Package: WSON-6; Supplier-1: MOUSER; Supplier Part Number-1: TVS0500DRVR
footprint WSON-6_25_126_23X13_SMD (diode)
pins: 1 GND, 2 GND, 3 GND, 4 IN, 5 IN, 6 IN, 7 GND

## DIO-T_5V-9V-40A-DFN1006-2L
designator D?, comment ESD5451N
1-Line, Bi-directional, Transient Voltage Suppressors; Manufacturer: SEMI; Alternate Part Number-1: NA; Manufacturer Part Number: ESD5451N; Case/Package: DFN1006-2L; Supplier-1: NA; Supplier Part Number-1: NA
footprint DIO_DFN1006-2L (Diode)
pins: A, K

## DIO-T_5V-14.5V-28A-SOT363
designator D?, comment NUP4202W1T2G
14.5V (Typ) Clamp 28A (8/20µs) Ipp Tvs Diode Surface Mount SC-88/SC70-6/SOT-363; Manufacturer: Texas Instruments; Alternate Part Number-1: NA; Manufacturer Part Number: NUP4202W1T2G; Case/Package: SOT363; Supplier-1: LCSC; Supplier Part Number-1: C89319
footprint SOT363-6 (SOT363)
pins: 1 I/O1, 2 VN, 3 I/O3, 4 I/O, 5 VP, 6 I/O

## DIO-T_5V-18V-4A-FBP-02C
designator D?, comment ESD9X5VU-2/TR
Unidirectional 5V (Max) 7V 18V (Typ) 4A (8/20us) FBP-02C Diodes - ESD RoHS; Manufacturer: WILLSEMI(Will Semicon); Alternate Part Number-1: NA; Manufacturer Part Number: ESD9X5VU-2/TR; Case/Package: FBP-02C; Supplier-1: LCSC; Supplier Part Number-1: C189964
footprint DIO_FBP-02C (Diode)
pins: A, K

## DIO-T_5V-20V-4A-SOT-23
designator D?, comment ESD5302F
2-Lines, Uni-directional, Ultra-low Capacitance / Transient Voltage Suppressors; Manufacturer: SEMI; Alternate Part Number-1: NA; Manufacturer Part Number: ESD5302F; Case/Package: SOT-23; Supplier-1: NA; Supplier Part Number-1: NA
footprint SOT 23-3 (Case: SOT23)
pins: 1 IO1, 2 IO2, 3 GND

## DIO-T_6V-10V-2A-WSON8
designator D?, comment TPD8E003DQDR
10V Clamp 2A (8/20µs) Ipp Tvs Diode Surface Mount 8-WSON (1.7x1.35); Manufacturer: Texas Instruments; Alternate Part Number-1: NA; Manufacturer Part Number: TPD8E003DQDR; Case/Package: WSON8; Supplier-1: ARROW; Supplier Part Number-1: TPD8E003DQDR
footprint DIO_WSON8 (DIODE)
pins: 1 IO1, 2 IO2, 3 IO3, 4 IO4, 5 IO5, 6 IO6, 7 IO7, 8 IO8, 9 GND

## DIO-T_6V-14.5V-28A-CASE-419B
designator U?, comment NUP4202W1T2G
14.5V (Typ) Clamp 28A (8/20µs) Ipp Tvs Diode Surface Mount SC-88/SC70-6/SOT-363; Manufacturer: ON Semiconductor; Alternate Part Number-1: NA; Manufacturer Part Number: NUP4202W1T2G; Case/Package: CASE-419B; Supplier-1: ARROW; Supplier Part Number-1: NUP4202W1T2G
footprint DIO_CASE-419B_SMD (CASE: 419B)
pins: 1 I/O_1 (io), 2 VN, 3 I/O_2 (io), 4 I/O_3 (io), 5 VP, 6 I/O_4 (io)

## DIO-T_7.5V-9.5V-43A-6-WDFN
designator D?, comment TVS0500DRVR
9.5V Clamp 43A (8/20µs) Ipp Tvs Diode Surface Mount 6-WSON (2x2); Manufacturer: ON Semiconductor; Alternate Part Number-1: NA; Manufacturer Part Number: TVS0500DRVR; Case/Package: 6-WDFN; Supplier-1: Mouser; Supplier Part Number-1: 595-TVS0500DRVR
footprint DIO_6-WDFN_SMD (Diode)
pins: 1 GND, 2 GND, 3 GND, 4 IN, 5 IN, 6 IN, 7 GND

## DIO-T_12V-19.9V-30A-DO214AA
designator D?, comment SMBJ12CA
19.9V Clamp 30.2A Ipp Tvs Diode Surface Mount DO-214AA (SMBJ); Manufacturer: Texas Instruments; Alternate Part Number-1: SMBJ12CA-H; Manufacturer Part Number: SMBJ12CA; Case/Package: DO214AA; Supplier-1: SIRICOM; Supplier Part Number-1: SMBJ12CA
footprint DIO_SMB_DO-214AA (Diode)
pins: A, K

## DIO-T_15V-24V-24.6A-DO214AA
designator D?, comment SMBJ15CA-13-F
24.4V Clamp 24.6A Ipp Tvs Diode Surface Mount DO-214AA (SMBJ); Manufacturer: Nexperia; Alternate Part Number-1: NA; Manufacturer Part Number: SMBJ15CA-13-F; Case/Package: DO214AA; Supplier-1: SIRICOM; Supplier Part Number-1: SMBJ15CA-13-F
footprint DIO_SMB_DO-214AA (Diode)
pins: A, K

## DIO-T_18V-24.7V-40A-WSON-6
designator D?, comment TVS1800DRVR
18V flat-clamp ESD Suppressors / TVS Diodes surge protection device 6-WSON -40 to 125; Manufacturer: Texas Instruments; Alternate Part Number-1: NA; Manufacturer Part Number: TVS1800DRVR; Case/Package: 6-WDFN; Supplier-1: ARROW; Supplier Part Number-1: TVS1800DRVR
footprint WSON-6_25_126_23X13_SMD
pins: 1 GND, 2 GND, 3 GND, 4 IN, 5 IN, 6 IN, 7 GND

## DIO-TVS-4V-LXES15AAA1-153
designator D?  (value not drawn)
ESD Suppressor Diode TVS Bi-Dir 4V 2-Pin Case 0402(1005Metric) T/R
footprint Murata_LXES15_IPC_A
pins: 1, 2

## DIO-Z_1.8V-500mW-DO213AA
designator D?, comment 1.8V Zener
Zener Diode 1.8V 500mW ±5% Surface Mount DO-213AA; Manufacturer: *; Manufacturer Part Number: *; Case/Package: *; Supplier-1: *; Supplier Part Number-1: *; Alternate Part Number-1: *
footprint DIO_DO-213AB_SMD (Diode)
pins: A, K

## DIO-Z_3.3V-1W-DO-213AB
designator D?, comment 3.3V Zener
Zener Diode 3.3V 1W ±5% Surface Mount DO-213AB (MELF, LL41); Manufacturer: ON Semiconductor; Manufacturer Part Number: JAN1N3821AUR-1; Alternate Part Number-1: NA; Case/Package: DO-213AB; Supplier-1: SP ROAD; Supplier Part Number-1: JAN1N3821AUR-1
footprint DIO_DO-213AB_SMD (Diode)
pins: A, K

## DIO-Z_3.3V-200mW-SOD323
designator D?, comment MM3Z3V3B
Zener Diode 3.3V 200mW ±2% Surface Mount SOD-323F; Manufacturer: Nexperia; Alternate Part Number-1: NA; Manufacturer Part Number: MM3Z3V3B; Case/Package: SOD323; Supplier-1: SIRICOM; Supplier Part Number-1: BZT52C3V3S
footprint DIO_SOD-323F (Diode)
pins: A, K

## DIO-Z_3.3V-500mW-SOD123
designator D?, comment BZT52C3V3-7-F
Zener Diode 3.3V 500mW ±6% Surface Mount SOD-123; Manufacturer: Diodes Incorporated; Alternate Part Number-1: NA; Manufacturer Part Number: BZT52C3V3-7-F; Case/Package: SOD-123; Supplier-1: Digikey; Supplier Part Number-1: BZT52C3V3-FDICT-ND
footprint DIO_SOD-123 (DIODE GEN PURP)
pins: A, K

## DIO-Z_3.3V-500mW-SOD-80
designator D?, comment 3.3V ZENER
Zener Diode 3.3V 500mW ±5% Surface Mount LLDS; MiniMelf; Manufacturer: Vishay Semiconductors; Manufacturer Part Number: BZV55-C3V3,135; Alternate Part Number-1: TZM5226B-GS08; Case/Package: SOD-80; Supplier-1: SIRICOM; Supplier Part Number-1: BZV55-C3V3
footprint DIO_SOD80C (Voltage regulator diodes)
pins: A, K

## DIO-Z_3V-300mW-SOD323
designator D?, comment BZX384C75-E3-08
Zener Diode 75V 200mW ±5% Surface Mount SOD-323; Manufacturer: Vishay; Alternate Part Number-1: NA; Manufacturer Part Number: BZX384C75-E3-08; Case/Package: SOD323; Supplier-1: SIRICOM; Supplier Part Number-1: MM3Z3V0T1G
footprint DIO_SOD-323F (Diode)
pins: A, K

## DIO-Z_5.1V-1W-DO-213AB
designator D?, comment 5.1V Zener
Zener Diode 5.1V 1W ±5% Surface Mount DO-213AB; Manufacturer: Vishay; Manufacturer Part Number: ZMY5V1-GS18; Alternate Part Number-1: NA; Case/Package: DO-213AB; Supplier-1: Mouser; Supplier Part Number-1: 78-ZMY5V1-GS18
footprint DIO_DO-213AB_SMD (Diode)
pins: A, K

## DIO-Z_5.1V-300mW-SOD323
designator D?, comment MM3Z5V1ST1G
Zener Diode 5.1V 300mW ±2% Surface Mount SOD-323; Manufacturer: Vishay Semiconductors; Alternate Part Number-1: NA; Manufacturer Part Number: MM3Z5V1ST1G; Case/Package: SOD323; Supplier-1: SIRICOM; Supplier Part Number-1: BZT52C5V1S
footprint DIO_SOD-323F (Diode)
pins: A, K

## DIO-Z_5.1V-500mW-SOD-80
designator D?, comment 5.1V ZENER
Zener Diode 5.1V 500mW ±5% Surface Mount SOD-80 QuadroMELF; Manufacturer: ON Semiconductor; Manufacturer Part Number: BZT55C5V1-GS08; Alternate Part Number-1: TZM5231B-GS08; Case/Package: SOD-80; Supplier-1: SIRICOM; Supplier Part Number-1: BZV55-C5V1
footprint DIO_SOD80C (Voltage regulator diodes)
pins: A, K

## DIO-Z_8.1V-500mW-SOD-80
designator D?, comment 8.1V Zener
Zener Diode 8.2V 500mW Surface Mount SOD-80 MiniMELF; Manufacturer: Microsemi; Manufacturer Part Number: TZMA8V2-GS08; Alternate Part Number-1: NA; Case/Package: SOD-80; Supplier-1: SIRICOM; Supplier Part Number-1: BZV55-C8V2
footprint DIO_SOD80C (Voltage regulator diodes)
pins: A, K

## DIO-Z_8.2V-1W-SOD123
designator D?, comment DFLZ8V2-TP-ZENER
Zener Diode 8.2V 1W ±6% Surface Mount SOD-123FL; Manufacturer: ON Semiconductor / Fairchild; Alternate Part Number-1: BZT52C8V2-TP; Manufacturer Part Number: DFLZ8V2-TP; Case/Package: SOD123; Supplier-1: SIRICOM; Supplier Part Number-1: MMSZ5237B-7-F
footprint DIO_SOD-123 (DIODE GEN PURP)
pins: A, K

## DIO-Z_12V-1W-DO-213AB
designator D?, comment 12v zener
Zener Diode 12V 1W ±5% Surface Mount DO-213AB; Manufacturer: Nexperia; Manufacturer Part Number: ZM4742A-GS08; Alternate Part Number-1: NA; Case/Package: DO-213AB; Supplier-1: Mouser; Supplier Part Number-1: 625-ZM4742A
footprint DIO_DO-213AB_SMD (Diode)
pins: A, K

## DIO-Z_12V-200mW-SOD323
designator D?, comment MM3Z12VT1G
Zener Diode 12V 300mW ±5% Surface Mount SOD-323; Manufacturer: Vishay; Alternate Part Number-1: NA; Manufacturer Part Number: MM3Z12VT1G; Case/Package: SOD323; Supplier-1: SIRICOM; Supplier Part Number-1: MM3Z12VT1
footprint DIO_SOD-323F (Diode)
pins: A, K

## DIO-Z_12V-500mW-SOD80
designator D?, comment 12V-ZENER
Zener Diode 12V 500mW ±5% Surface Mount LLDS; MiniMelf; Manufacturer: Vishay Semiconductors; Manufacturer Part Number: BZV55-C12,115; Alternate Part Number-1: NA; Case/Package: SOD80C; Supplier-1: SIRICOM; Supplier Part Number-1: BZV55-C12
footprint DIO_SOD80C (Voltage regulator diodes)
pins: A, K

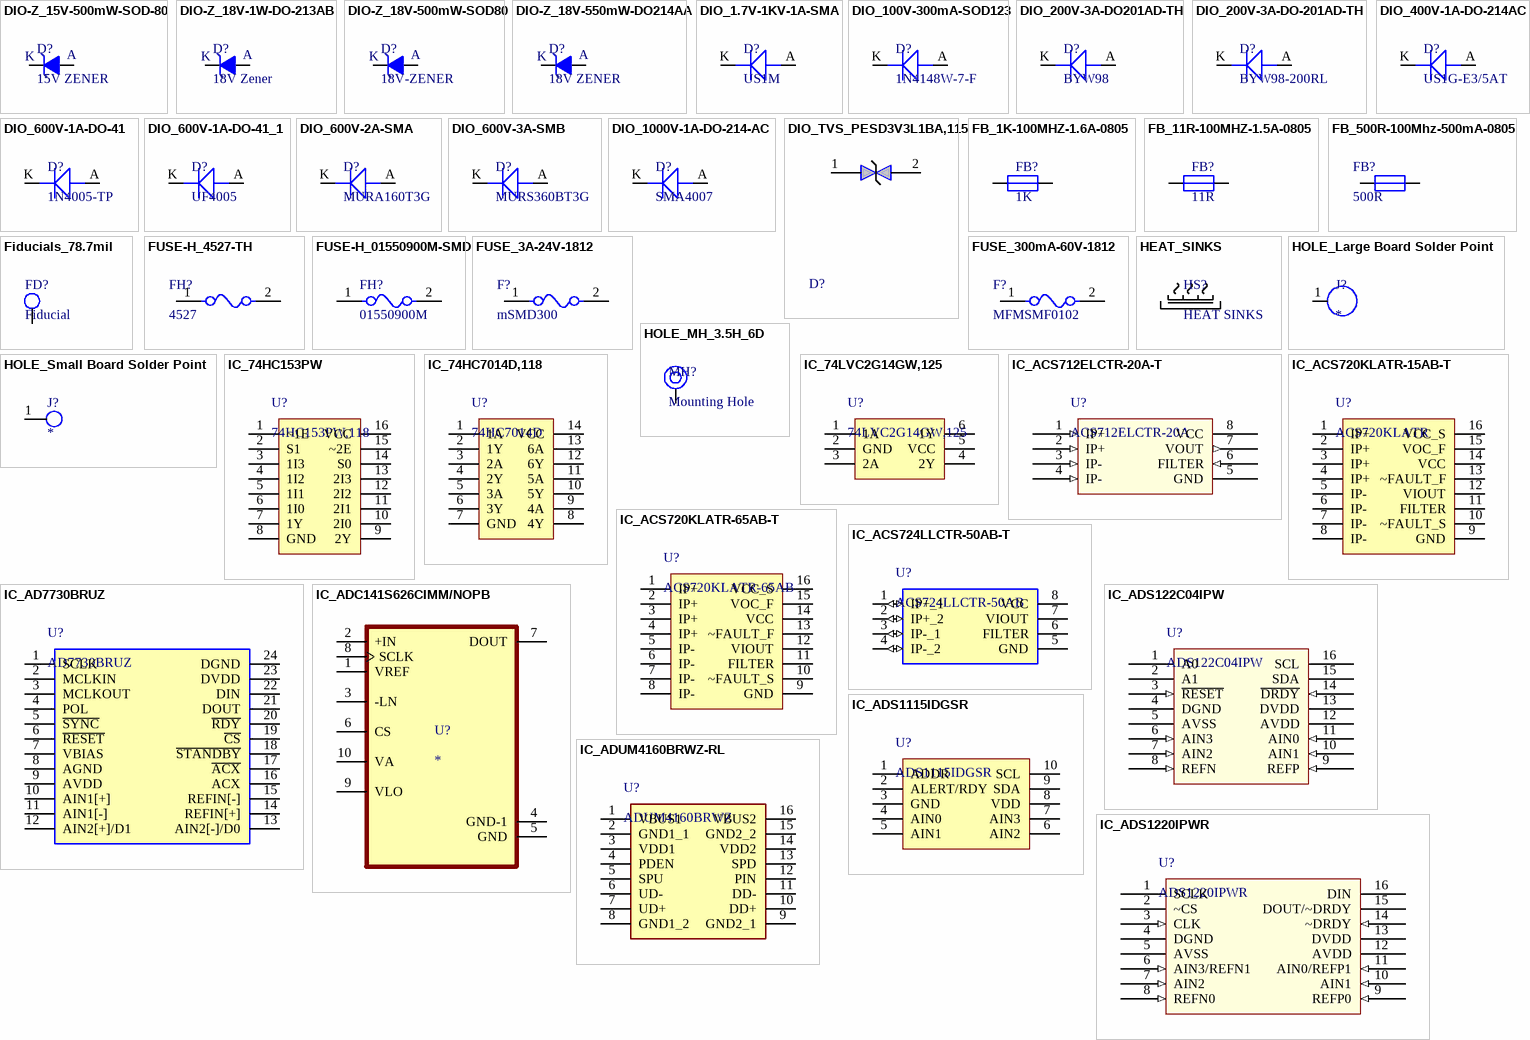
[diagram p6: symbols DIO-Z_15V-500mW-SOD-80 to IC_ADUM4160BRWZ-RL]

## DIO-Z_15V-500mW-SOD-80
designator D?, comment 15V ZENER
Zener Diode 15V 500mW Surface Mount SOD-80 QuadroMELF; Manufacturer: ON Semiconductor; Manufacturer Part Number: BZT55C15-GS08; Alternate Part Number-1: NA; Case/Package: SOD-80C; Supplier-1: SIRICOM; Supplier Part Number-1: BZV55-C15
footprint DIO_SOD80C
pins: A, K

## DIO-Z_18V-1W-DO-213AB
designator D?, comment 18V Zener
Zener Diode 18V 1W ±5% Surface Mount DO-213AB; Manufacturer: Vishay; Manufacturer Part Number: ZM4746A-GS08; Alternate Part Number-1: NA; Case/Package: DO-213AB; Supplier-1: Mouser; Supplier Part Number-1: 625-ZM4746A
footprint DIO_DO-213AB_SMD (Diode)
pins: A, K

## DIO-Z_18V-500mW-SOD80
designator D?, comment 18V-ZENER
Zener Diode 18V 500mW ±5% Surface Mount SOD-80 QuadroMELF; Manufacturer: Vishay Semiconductors; Manufacturer Part Number: BZT55C18-GS08; Alternate Part Number-1: NA; Case/Package: SOD80; Supplier-1: SIRICOM; Supplier Part Number-1: BZV55-C18
footprint DIO_SOD80C (Voltage regulator diodes)
pins: A, K

## DIO-Z_18V-550mW-DO214AA
designator D?, comment 18V ZENER
Zener Diode 18V 550mW ±5% Surface Mount SMB; Manufacturer: MCC; Manufacturer Part Number: 1SMB5931BT3G; Alternate Part Number-1: NA; Case/Package: DO214AA; Supplier-1: Mouser; Supplier Part Number-1: 863-1SMB5931BT3G
footprint DIO_SMB_DO-214AA (Diode)
pins: A, K

## DIO_1.7V-1KV-1A-SMA
designator D?, comment US1M
Diode Standard 1000V 1A Surface Mount SMA; Manufacturer: Diodes; Manufacturer Part Number: US1M-13-F; Alternate Part Number-1: NA; Case/Package: SMA; Supplier-1: SIRICOM; Supplier Part Number-1: US1M
footprint DIO_SMA_SMD (Diode)
pins: A ANODE, K CATHODE

## DIO_100V-300mA-SOD123
designator D?, comment 1N4148W-7-F
Diode Standard 100V 300mA (DC) Surface Mount SOD-123; Manufacturer: FAIRCHILD; Alternate Part Number-1: NA; Manufacturer Part Number: 1N4148W-7-F; Case/Package: SOD123; Supplier-1: SIRICOM; Supplier Part Number-1: 1N4148W-7-F
footprint DIO_SOD-123 (DIODE GEN PURP)
pins: A ANODE, K CATHODE

## DIO_200V-3A-DO201AD-TH
designator D?, comment BYW98
Diode Standard 200V 3A Through Hole DO-201AD; Manufacturer: Diodes; Manufacturer Part Number: BYW98-200RL; Alternate Part Number-1: NA; Case/Package: DO201AD-TH; Supplier-1: Mouser; Supplier Part Number-1: 511-BYW98-200-TR
footprint DIO_DO-201AD_TH (DIODE)
pins: A ANODE, K CATHODE

## DIO_200V-3A-DO-201AD-TH
designator D?, comment BYW98-200RL
Diode Standard 200V 3A Through Hole DO-201AD; Manufacturer: STMicroelectronics; Alternate Part Number-1: NA; Manufacturer Part Number: BYW98-200RL; Case/Package: DO-201AD-TH; Supplier-1: Mouser; Supplier Part Number-1: 511-BYW98-200-TR
footprint DIO_DO-201AD_TH (DIODE)
pins: A ANODE, K CATHODE

## DIO_400V-1A-DO-214AC
designator D?, comment US1G-E3/5AT
Diode Standard 400V 1A Surface Mount DO-214AC (SMA); Manufacturer: STMicroelectronics; Alternate Part Number-1: NA; Manufacturer Part Number: US1G-E3/5AT; Case/Package: DO-214AC; Supplier-1: SIRICOM; Supplier Part Number-1: US1M
footprint DIO_SMB_DO-214AC (Diodes)
pins: A ANODE, K CATHODE

## DIO_600V-1A-DO-41
designator D?, comment 1N4005-TP
Diode Standard 600V 1A Through Hole DO-41; Manufacturer: Vishay Semiconductors; Alternate Part Number-1: NA; Manufacturer Part Number: 1N4005-TP; Case/Package: DO-41; Supplier-1: SIRICOM; Supplier Part Number-1: 1N4007
footprint DIO_DO-201AD_TH (DIODE)
pins: A ANODE, K CATHODE

## DIO_600V-1A-DO-41_1
designator D?, comment UF4005
Diode Standard 600V 1A Through Hole DO-204AL (DO-41); Manufacturer: MCC; Alternate Part Number-1: NA; Manufacturer Part Number: UF4005; Case/Package: DO-41; Supplier-1: SIRICOM; Supplier Part Number-1: UF4007
footprint DIO_DO-201AD_TH (DIODE)
pins: A ANODE, K CATHODE

## DIO_600V-2A-SMA
designator D?, comment MURA160T3G
Diode Standard 600V 1A Surface Mount SMA; Manufacturer: ON Semiconductor / Fairchild; Alternate Part Number-1: NA; Manufacturer Part Number: MURA160T3G; Case/Package: SMA; Supplier-1: SIRICOM; Supplier Part Number-1: MURA160T3G
footprint DIO_SMB_DO-214AA (Diode)
pins: A ANODE, K CATHODE

## DIO_600V-3A-SMB
designator D?, comment MURS360BT3G
Diode Standard 600V 3A Surface Mount SMB; Manufacturer: ON Semiconductor; Alternate Part Number-1: NA; Manufacturer Part Number: MURS360BT3G; Case/Package: SMB; Supplier-1: SIRICOM; Supplier Part Number-1: MURS360BT3G
footprint DIO_SMC_DO-214AB (Diode)
pins: A ANODE, K CATHODE

## DIO_1000V-1A-DO-214-AC
designator D?, comment SMA4007
Diode Standard 1000V 1A Through Hole DO-214-AC; Manufacturer: ON Semiconductor; Alternate Part Number-1: NA; Manufacturer Part Number: SMA4007; Case/Package: DO-214-AC; Supplier-1: SIRICOM; Supplier Part Number-1: S2M
footprint DIO_SMB_DO-214AC (Diodes)
pins: A ANODE, K CATHODE

## DIO_TVS_PESD3V3L1BA,115
designator D?, comment PESD3V3L1BA,  (value not drawn)
footprint Nexperia_SOD323_0
pins: 1, 2

## FB_1K-100MHZ-1.6A-0805
designator FB?, comment 1K
1 kOhms @ 100MHz 1 Power Line Ferrite Bead 0805 (2012 Metric) 1.6A; Manufacturer: Laird; Manufacturer Part Number: BLM21SP102SH1D; Alternate Part Number-1: NA; Case/Package: 0805; Supplier-1: SIRICOM; Supplier Part Number-1: ACMS201209A102
footprint IND_0805 (Ferrite Bead)
pins: 1, 2

## FB_11R-100MHZ-1.5A-0805
designator FB?, comment 11R
11 Ohms @ 100MHz 1 Power Line Ferrite Bead 0805 (2012 Metric) 1.5A 60mOhm; Manufacturer: Murata; Manufacturer Part Number: MI0805K110R-10; Alternate Part Number-1: NA; Case/Package: 0805; Supplier-1: SIRICOM; Supplier Part Number-1: ACMS201209A110
footprint IND_0805 (Ferrite Bead)
pins: 1, 2

## FB_500R-100Mhz-500mA-0805
designator FB?, comment 500R
500 Ohms @ 100MHz 1 Ferrite Bead 0805 (2012 Metric) 500mA 300mOhm; Manufacturer: Abracon; Manufacturer Part Number: ACML-0805-501-T; Alternate Part Number-1: NA; Case/Package: 0805; Supplier-1: SIRICOM; Supplier Part Number-1: ACMS201209A601 2A
footprint IND_0805 (Ferrite Bead)
pins: 1, 2

## Fiducials_78.7mil
designator FD?, comment Fiducial
78.7mil Fiducials SMD; Manufacturer: NA; Manufacturer Part Number: NA; Case/Package: SMD; Supplier-1: NA; Supplier Part Number-1: NA; Alternate Part Number-1: NA
footprint FIDUCIAL_78.7MIL (30mil Fiducial)
pins: 1

## FUSE-H_4527-TH
designator FH?, comment 4527
Fuse Holder 5A 250V 1 Circuit Cartridge Through Hole; Manufacturer: Littelfuse; Alternate Part Number-1: NA; Manufacturer Part Number: 4527; Case/Package: TH; Supplier-1: ARROW; Supplier Part Number-1: 4527
footprint FUSE-H_4527_TH_ST (FUSE HOLDER)
pins: 1, 2

## FUSE-H_01550900M-SMD
designator FH?, comment 01550900M
Fuse Block 10A 125V 1 Circuit Cartridge Surface Mount; Manufacturer: Keystone Electronics; Alternate Part Number-1: NA; Manufacturer Part Number: 01550900M; Case/Package: SMD; Supplier-1: ARROW; Supplier Part Number-1: 01550900M
footprint FUSE-H_01550900M_SMD (Fuse Holder)
pins: 1, 2

## FUSE_3A-24V-1812
designator F?, comment mSMD300
24V 3A 1812 PTC Resettable Fuses RoHS; Manufacturer: TECHFUSE; Alternate Part Number-1: NA; Manufacturer Part Number: mSMD300; Case/Package: 1812; Supplier-1: Aliexpress; Supplier Part Number-1: MSMD300 3A 24V
footprint FUSE_1812 (Fuse)
pins: 1, 2

## FUSE_300mA-60V-1812
designator F?, comment MFMSMF0102
Polymeric PTC Resettable Fuse 60V 100mA Ih Surface Mount 1812 (4532 Metric), Concave; Manufacturer: Bourns; Alternate Part Number-1: NA; Manufacturer Part Number: MFMSMF0102; Case/Package: 1812; Supplier-1: ARROW; Supplier Part Number-1: MFMSMF0102
footprint FUSE_1812 (Fuse)
pins: 1, 2

## HEAT_SINKS
designator HS?, comment HEAT SINKS
HEAT SINKS OF DIFFERENT DIMENTIONS; Manufacturer Part Number: NA; Case/Package: HEAT SINKS; Manufacturer: NA; Supplier-1: SP ROAD; Supplier Part Number-1: NA; Alternate Part Number-1: NA
footprint Heat Sink H (HALF BRICK CONVERTER HEATSINK)

## HOLE_Large Board Solder Point
designator J?  (no BOM)
Large Board Solder Point
footprint Large Solder Point
pins: 1

## HOLE_MH_3.5H_6D
designator MH?, comment Mounting Hole
Manufacturer Part Number: NA; Case/Package: TH; Manufacturer: NA; Supplier-1: NA; Supplier Part Number-1: NA; Alternate Part Number-1: NA
footprint MOUNTING
pins: 1

## HOLE_Small Board Solder Point
designator J?  (no BOM)
Small Board Solder Point
footprint Small Solder POint
pins: 1

## IC_74HC153PW
designator U?, comment 74HC153PW,118
Multiplexer 2 x 4:1 16-TSSOP; Manufacturer: Nexperia; Alternate Part Number-1: NA; Manufacturer Part Number: 74HC153PW,118; Case/Package: TSSOP16; Supplier-1: Mouser; Supplier Part Number-1: 771-HC153PW118
footprint TSSOP16_25-59_294_54X14_SMT (TSOP, 16-Leads, Body 5.00x4.40mm, Pitch 0.65mm)
pins: 1 ~1E, 2 S1, 3 1I3, 4 1I2, 5 1I1, 6 1I0, 7 1Y, 8 GND, 9 2Y, 10 2I0, 11 2I1, 12 2I2, 13 2I3, 14 S0, 15 ~2E, 16 VCC

## IC_74HC7014D,118
designator U?, comment 74HC7014D
Buffer, Non-Inverting 6 Element 1 Bit per Element Push-Pull Output 14-SO; Manufacturer: Nexperia; Manufacturer Part Number: 74HC7014D,118; Alternate Part Number-1: NA; Case/Package: SOIC14; Supplier-1: Mouser; Supplier Part Number-1: 771-74HC7014D-T
footprint SOIC14_50_285_80X25_SMT (SOIC, 14-Leads, Body 8.56x3.90mm, Pitch 1.27mm, IPC Medium Density)
pins: 1 1A, 2 1Y, 3 2A, 4 2Y, 5 3A, 6 3Y, 7 GND, 8 4Y, 9 4A, 10 5Y, 11 5A, 12 6Y, 13 6A, 14 VCC

## IC_74LVC2G14GW,125
designator U?, comment 74LVC2G14GW,125
Inverter IC 2 Channel Schmitt Trigger SOT-363; Manufacturer: Nexperia USA Inc.; Alternate Part Number-1: NA; Manufacturer Part Number: 74LVC2G14GW,125; Case/Package: SOT-363; Supplier-1: Digikey; Supplier Part Number-1: 1727-4217-1-ND
footprint SOT363-6 (SOT363)
pins: 1 1A, 2 GND, 3 2A, 4 2Y, 5 VCC, 6 1Y

## IC_ACS712ELCTR-20A-T
designator U?, comment ACS712ELCTR-20A
Current Sensor 20A 1 Channel Hall Effect, Open Loop Bidirectional 8-SOIC (0.154", 3.90mm Width); Manufacturer: Allegro MicroSystems; Manufacturer Part Number: ACS712ELCTR-20A-T; Alternate Part Number-1: NA; Case/Package: SOIC8; Supplier-1: CATLOG COMPONENTS; Supplier Part Number-1: ACS712ELCTR-20A-T
footprint SOIC8_50_328_25X90_SMT (SOIC)
pins: 1 IP+ (in), 2 IP+ (in), 3 IP- (in), 4 IP- (in), 5 GND (power), 6 FILTER (in), 7 VOUT (out), 8 VCC (power)

## IC_ACS720KLATR-15AB-T
designator U?, comment ACS720KLATR
Current Sensor 15A 1 Channel Hall Effect, Open Loop Bidirectional 16-SOIC (0.295", 7.50mm Width); Manufacturer: Allegro MicroSystems; Manufacturer Part Number: ACS720KLATR-15AB-T; Alternate Part Number-1: NA; Case/Package: SOICW16; Supplier-1: Arrow; Supplier Part Number-1: ACS720KLATR-15AB-T
footprint SOICW16_50_440_25X76_SMT (SOICW)
pins: 1 IP+, 2 IP+, 3 IP+, 4 IP+, 5 IP-, 6 IP-, 7 IP-, 8 IP-, 9 GND, 10 ~FAULT_S, 11 FILTER, 12 VIOUT, 13 ~FAULT_F, 14 VCC, 15 VOC_F, 16 VCC_S

## IC_ACS720KLATR-65AB-T
designator U?, comment ACS720KLATR-65AB
Current Sensor 65A 1 Channel Hall Effect, Open Loop Bidirectional 16-SOIC (0.295", 7.50mm Width); Manufacturer: Allegro MicroSystems; Manufacturer Part Number: ACS720KLATR-65AB-T; Alternate Part Number-1: NA; Case/Package: SOICW16; Supplier-1: Digikey; Supplier Part Number-1: 620-1877-1-ND
footprint SOICW16_50_440_25X76_SMT (SOICW)
pins: 1 IP+, 2 IP+, 3 IP+, 4 IP+, 5 IP-, 6 IP-, 7 IP-, 8 IP-, 9 GND, 10 ~FAULT_S, 11 FILTER, 12 VIOUT, 13 ~FAULT_F, 14 VCC, 15 VOC_F, 16 VCC_S

## IC_ACS724LLCTR-50AB-T
designator U?, comment ACS724LLCTR-50AB
Current Sensor 50A 1 Channel Hall Effect, Open Loop Bidirectional 8-SOIC (0.154", 3.90mm Width); Manufacturer: Allegro MicroSystems; Manufacturer Part Number: ACS724LLCTR-50AB-T; Alternate Part Number-1: NA; Case/Package: SOIC8; Supplier-1: Arrow; Supplier Part Number-1: ACS724LLCTR-50AB-T
footprint SOIC8_50_328_25X90_SMT (SOIC)
pins: 1 IP+_1 (io), 2 IP+_2 (io), 3 IP-_1 (io), 4 IP-_2 (io), 5 GND, 6 FILTER, 7 VIOUT, 8 VCC (power)

## IC_AD7730BRUZ
designator U?, comment AD7730BRUZ
1 Channel AFE 24 Bit 125mW 24-PDIP; Manufacturer: Analog Devices; Manufacturer Part Number: AD7730BNZ; Alternate Part Number-1: NA; Case/Package: 24-DIP (0.300; Supplier-1: MOUSER; Supplier Part Number-1: AD7730BNZ
footprint PDIP24_100_393_43X43_TH (PDIP24)
pins: 1 SCLK, 2 MCLKIN, 3 MCLKOUT, 4 POL, 5 ~{SYNC}, 6 ~{RESET}, 7 VBIAS, 8 AGND, 9 AVDD (power), 10 AIN1[+], 11 AIN1[-], 12 AIN2[+]/D1, 13 AIN2[-]/D0, 14 REFIN[+], 15 REFIN[-], 16 ACX, 17 ~{ACX}, 18 ~{STANDBY}, 19 ~{CS}, 20 ~{RDY}, 21 DOUT, 22 DIN, 23 DVDD (power), 24 DGND

## IC_ADC141S626CIMM/NOPB
designator U?
14 BIT 1 CHANNEL ADC; MP: ADC141S626CIMM/NOPB; Package: None; Price: None; Value: *; Availability: Unavailable
footprint ADC-SOP50P490X110
pins: 1 VREF, 2 +IN, 3 -LN, 4 GND-1 (power), 5 GND (power), 6 CS, 7 DOUT, 8 SCLK, 9 VLO, 10 VA

## IC_ADS122C04IPW
designator U?, comment ADS122C04IPW
24 Bit Analog to Digital Converter 4 Input 1 Sigma-Delta 16-TSSOP; Manufacturer: Texas Instruments; Alternate Part Number-1: NA; Manufacturer Part Number: ADS122C04IPW; Case/Package: TSSOP16; Supplier-1: MOUSER; Supplier Part Number-1: ADS122C04IPW
footprint TSSOP16_25-59_294_54X14_SMT (TSOP, 16-Leads, Body 5.00x4.40mm, Pitch 0.65mm)
pins: 1 A0, 2 A1, 3 ~{RESET} (in), 4 DGND (power), 5 AVSS (power), 6 AIN3 (in), 7 AIN2 (in), 8 REFN (in), 9 REFP (in), 10 AIN1 (in), 11 AIN0 (in), 12 AVDD (power), 13 DVDD (power), 14 ~{DRDY} (in), 15 SDA (oc), 16 SCL (oc)

## IC_ADS1115IDGSR
designator U?, comment ADS1115IDGSR
Analog to Digital Converters - ADC 16B ADC w/ Int MUX PGA Comp Osc & Ref; Manufacturer: Texas Instruments; Alternate Part Number-1: NA; Manufacturer Part Number: ADS1115IDGSR; Case/Package: MSOP-10; Supplier-1: Mouser; Supplier Part Number-1: 595-ADS1115IDGSR
footprint VSOP-10_19.6_230_57X12_SMD (VSOP Package)
pins: 1 ADDR, 2 ALERT/RDY, 3 GND, 4 AIN0, 5 AIN1, 6 AIN2, 7 AIN3, 8 VDD, 9 SDA, 10 SCL

## IC_ADS1220IPWR
designator U?, comment ADS1220IPWR
24 Bit Analog to Digital Converter 2, 4 Input 1 Sigma-Delta 16-TSSOP; Manufacturer: Texas Instruments; Alternate Part Number-1: NA; Manufacturer Part Number: ADS1220IPWR; Case/Package: TSSOP16; Supplier-1: ARROW; Supplier Part Number-1: ADS1220IPWR
footprint TSSOP16_25-59_294_54X14_SMT (TSOP, 16-Leads, Body 5.00x4.40mm, Pitch 0.65mm)
pins: 1 SCLK, 2 ~CS, 3 CLK (in), 4 DGND (power), 5 AVSS (power), 6 AIN3/REFN1 (in), 7 AIN2 (in), 8 REFN0 (in), 9 REFP0 (in), 10 AIN1 (in), 11 AIN0/REFP1 (in), 12 AVDD (power), 13 DVDD (power), 14 ~DRDY (in), 15 DOUT/~DRDY (oc), 16 DIN (oc)

## IC_ADUM4160BRWZ-RL
designator U?, comment ADUM4160BRWZ
USB Digital Isolator 5000Vrms 2 Channel 12Mbps 25kV/µs CMTI 16-SOIC (0.295", 7.50mm Width); Manufacturer: Analog Devices; Manufacturer Part Number: ADUM4160BRWZ-RL; Alternate Part Number-1: NA; Case/Package: SOICW16; Supplier-1: Arrow; Supplier Part Number-1: ADUM4160BRWZ
footprint SOICW16_50_440_25X76_SMT (SOICW)
pins: 1 VBUS1, 2 GND1_1, 3 VDD1, 4 PDEN, 5 SPU, 6 UD-, 7 UD+, 8 GND1_2, 9 GND2_1, 10 DD+, 11 DD-, 12 PIN, 13 SPD, 14 VDD2, 15 GND2_2, 16 VBUS2

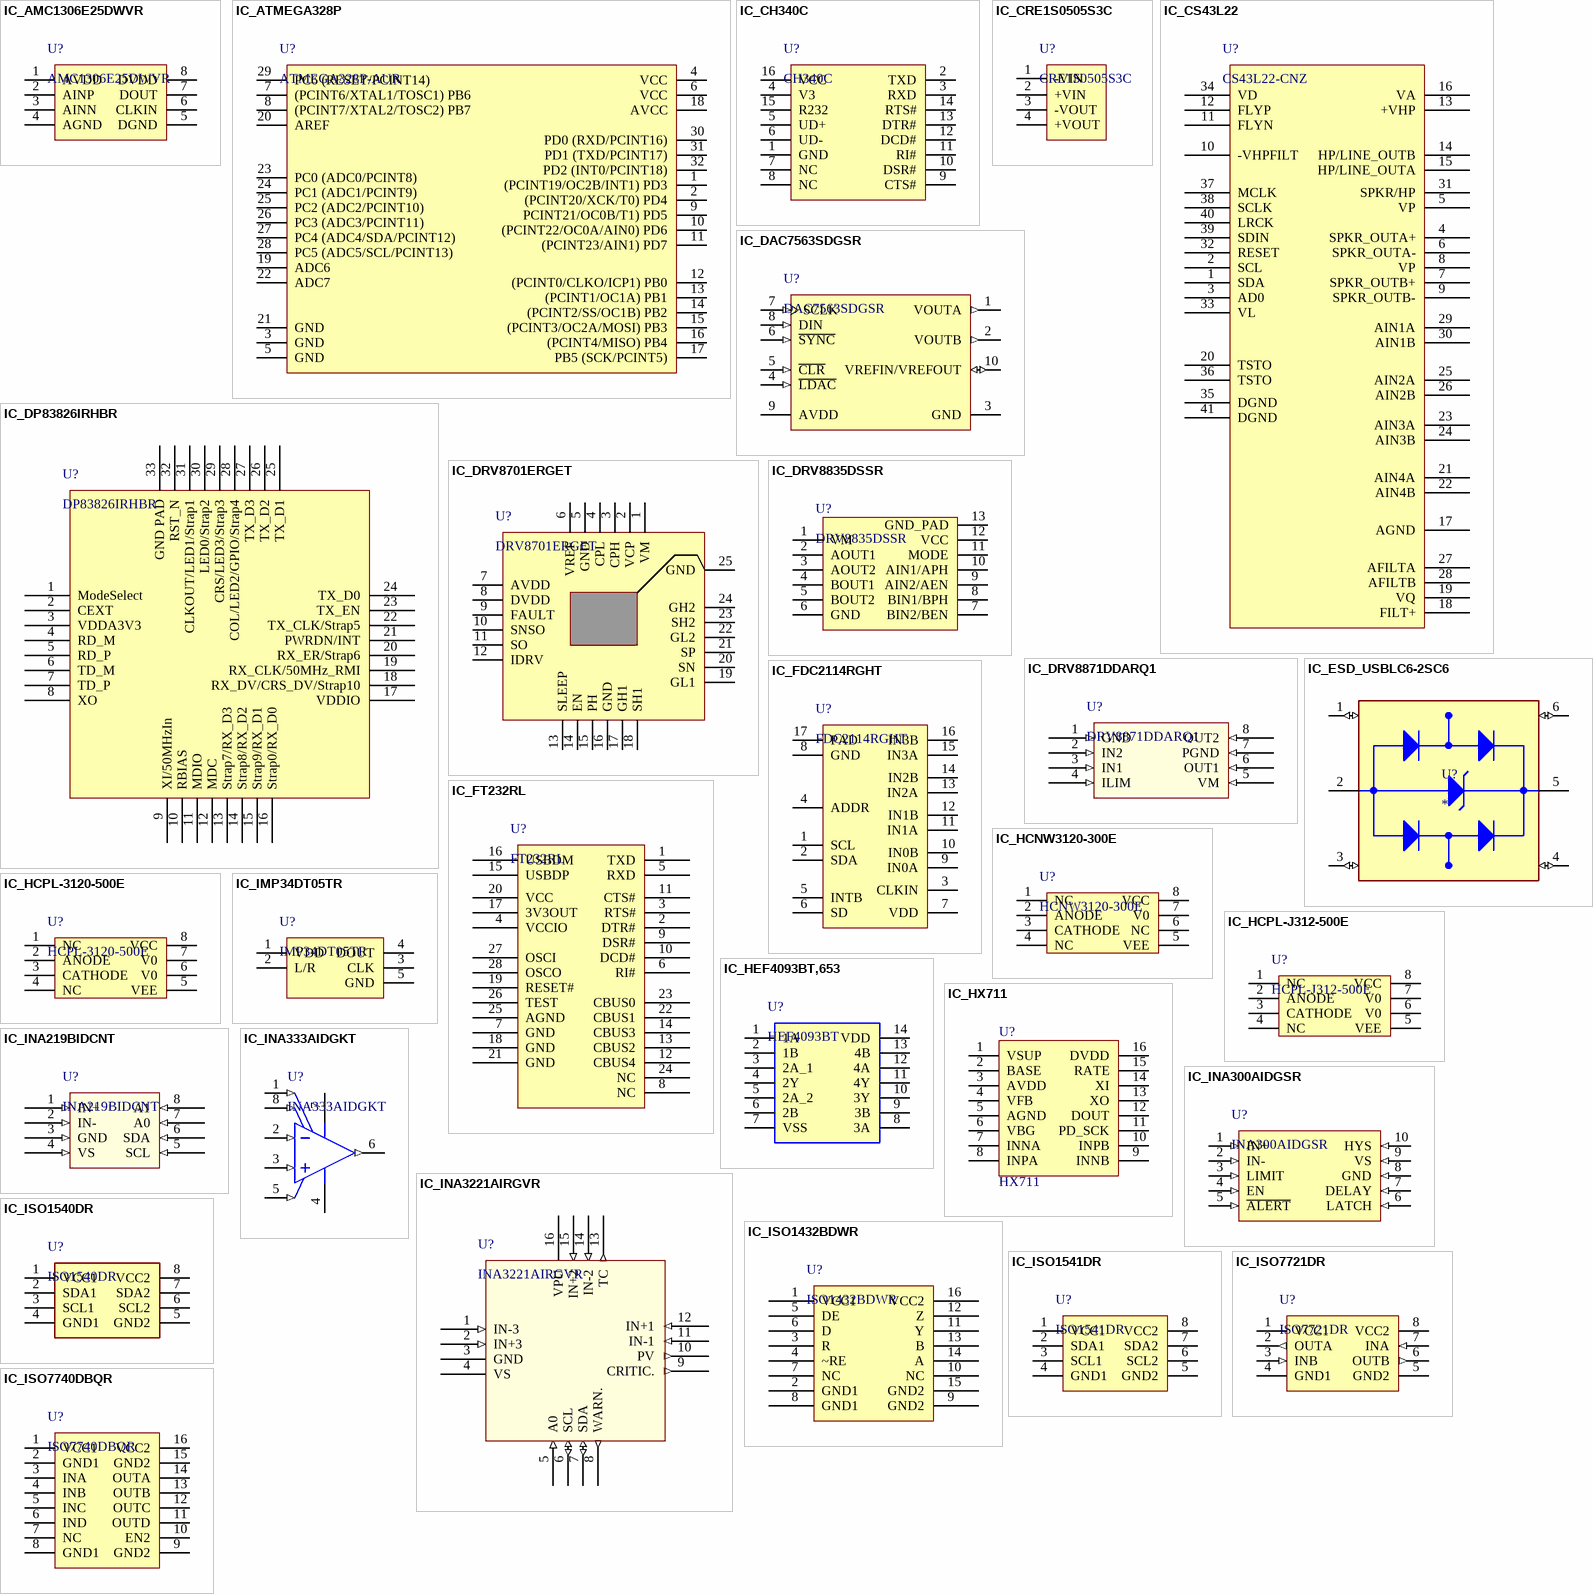
[diagram p7: symbols IC_AMC1306E25DWVR to IC_ISO7740DBQR]

## IC_AMC1306E25DWVR
designator U?, comment AMC1306E25DWVR
Isolated Module 16 bit 78k CMOS, Serial 8-SOIC; Manufacturer: Texas Instruments; Alternate Part Number-1: NA; Manufacturer Part Number: AMC1306E25DWVR; Case/Package: SOIC8; Supplier-1: ARROW; Supplier Part Number-1: AMC1306E25DWVR
footprint SOIC8_50_328_25X90_SMT (SOIC)
pins: 1 AVDD, 2 AINP, 3 AINN, 4 AGND, 5 DGND, 6 CLKIN, 7 DOUT, 8 DVDD

## IC_ATMEGA328P
designator U?, comment ATMEGA328P-AUR
AVR AVR® ATmega Microcontroller IC 8-Bit 20MHz 32KB (16K x 16) FLASH 32-TQFP (7x7); Manufacturer: Microchip Technology; Alternate Part Number-1: NA; Manufacturer Part Number: ATMEGA328P-AUR; Case/Package: 32-TQFP; Supplier-1: Arrow; Supplier Part Number-1: ATMEGA328P-AUR
footprint TQFP-32 (TQFP, 32-Leads, Body 7.10x7.10mm, Pitch 0.80mm, IPC Medium Density)
pins: 1 (PCINT19/OC2B/INT1) PD3, 2 (PCINT20/XCK/T0) PD4, 3 GND, 4 VCC, 5 GND, 6 VCC, 7 (PCINT6/XTAL1/TOSC1) PB6, 8 (PCINT7/XTAL2/TOSC2) PB7, 9 PCINT21/OC0B/T1) PD5, 10 (PCINT22/OC0A/AIN0) PD6, 11 (PCINT23/AIN1) PD7, 12 (PCINT0/CLKO/ICP1) PB0, 13 (PCINT1/OC1A) PB1, 14 (PCINT2/SS/OC1B) PB2, 15 (PCINT3/OC2A/MOSI) PB3, 16 (PCINT4/MISO) PB4, 17 PB5 (SCK/PCINT5), 18 AVCC, 19 ADC6, 20 AREF, 21 GND, 22 ADC7, 23 PC0 (ADC0/PCINT8), 24 PC1 (ADC1/PCINT9), 25 PC2 (ADC2/PCINT10), 26 PC3 (ADC3/PCINT11), 27 PC4 (ADC4/SDA/PCINT12), 28 PC5 (ADC5/SCL/PCINT13), 29 PC6 (RESET/PCINT14), 30 PD0 (RXD/PCINT16), 31 PD1 (TXD/PCINT17), 32 PD2 (INT0/PCINT18)